# Altium schematic symbol library Schlib1.SchLib: 2 symbols
Pins are listed as number, name and electrical type; pins without a type are passive.

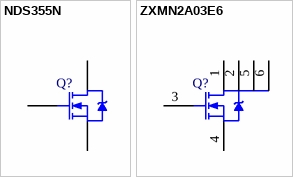
[diagram p0: symbols NDS355N to ZXMN2A03E6]

## NDS355N
designator Q?
N-Channel Logic Level Enhancement Mode FET; Manufacturer: Fairchild; Class I: Discrete; Class II: MOSFET - Power; Package Reference: SOT23
footprint SO-G3
pins: 1 G, 2 S, 3 D

## ZXMN2A03E6
designator Q?
20V N-Channel Enhancement Mode MOSFET; Manufacturer: Zetex; Class I: Discrete; Class II: MOSFET - Power; Package Reference: SOT23-6
footprint SIP-G3/Y2
simulation model IRF530S (SUBCKT)
footprint SO-G6/P1
pins: 1 D, 2 D, 3 G, 4 S, 5 D, 6 D